# Altium schematic symbol library Capacitors-0201.SchLib: 2 symbols
Pins are listed as number, name and electrical type; pins without a type are passive.

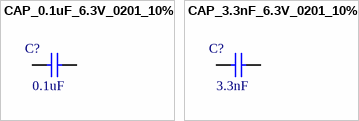
[diagram p0: symbols CAP_0.1uF_6.3V_0201_10% to CAP_3.3nF_6.3V_0201_10%]

## CAP_0.1uF_6.3V_0201_10%
designator C?, comment value 0.1uF  (hidden comment: 0.1uF 6.3V 0201)
0.1uF 6.3V 10% 0201 (0603 Metric); PartNumber: GRT033R60J104KE01D; Manufacturer: Murata; Mounting Technology: Surface Mount; PackageReference: 0201; PackageDescription: 0201 (0603 Metric); Voltage: 6.3V; Tolerance: 10%
footprint C0201[0603X30] (Chip Capacitor, Body 0.6x0.3mm)
pins: 1, 2

## CAP_3.3nF_6.3V_0201_10%
designator C?, comment value 3.3nF  (hidden comment: 3.3nF 6.3V 0201)
3.3nF 6.3V 10% 0201 (0603 Metric); PartNumber: GRM033R70J332KA01D; Manufacturer: Murata; Mounting Technology: Surface Mount; PackageReference: 0201; PackageDescription: 0201 (0603 Metric); Voltage: 6.3V; Tolerance: 10%
footprint C0201[0603X30] (Chip Capacitor, Body 0.6x0.3mm)
pins: 1, 2